# Altium schematic symbol library 1776275-2.SchLib: 1 symbol
Pins are listed as number, name and electrical type; pins without a type are passive.

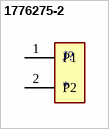
[diagram p0: symbol 1776275-2]

## 1776275-2
designator J?
TERM BLOCK 2POS SIDE ENT 3.5MM; MP: 1776275-2; MF: {'manufacturer': u'TE Connectivity'}; Value: *; Availability: Unavailable; Price: None; Package: None
footprint TE_1776275-2
pins: 1 P1, 2 P2